# EAGLE library part MC100EP16DTR2G (library on-semiconductor-01)
Differential Receiver/Driver
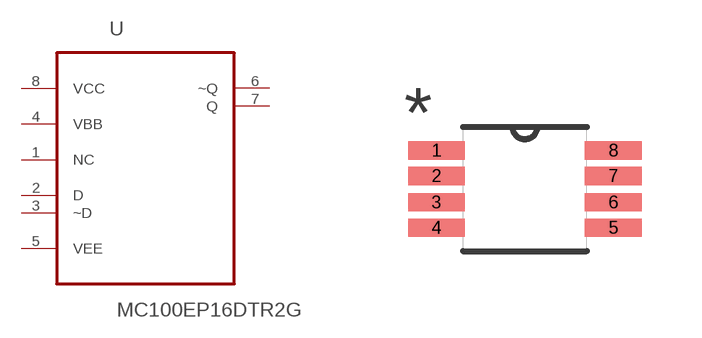
[diagram p107: symbol with the pads of SOP65P490X110-8N; footprint SOP65P490X110-8N]

Designator prefix U

## MC100EP16DTR2G (MPN: MC100EP16DTR2G; OC_FARNELL: 1364610; OC_NEWARK: 45J0940; PACKAGE: TSSOP-8; SUPPLIER: On Semiconductors)  [SOP65P490X110-8N]
1  NC  nc
2  D  in
3  ~D  in
4  VBB  pas
5  VEE  pwr
6  ~Q  out
7  Q  out
8  VCC  pwr

## Footprint SOP65P490X110-8N (pad centres in mm)
smd 1.422 x 0.457: 1 -2.21,0.965; 2 -2.21,0.33; 3 -2.21,-0.33; 4 -2.21,-0.965; 5 2.21,-0.965; 6 2.21,-0.33; 7 2.21,0.33; 8 2.21,0.965